# EAGLE library part SEEED-CONNECTOR--2016_GROVE-CONNECTOR-SMD-90D(4+2P-2.0) (library ATM90E26_Featherwing)
320110032
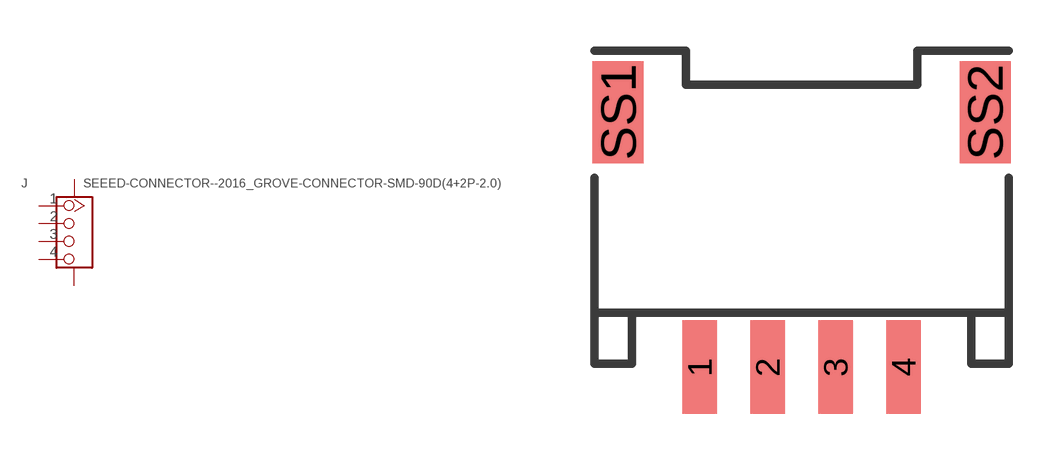
[diagram p1: symbol with the pads of SEEED-CONNECTOR--2016_HW4-SMD-2.0-90D; footprint SEEED-CONNECTOR--2016_HW4-SMD-2.0-90D]

Designator prefix J

## SEEED-CONNECTOR--2016_GROVE-CONNECTOR-SMD-90D(4+2P-2.0) (VALUE: 4P-SMD-2.0-90D)  [SEEED-CONNECTOR--2016_HW4-SMD-2.0-90D]
1  1
2  2
3  3
4  4
SS1  SS1
SS2  SS2

## Footprint SEEED-CONNECTOR--2016_HW4-SMD-2.0-90D (pad centres in mm)
smd 1.01 x 2.74: 1 -3,-0.1; 2 -1,-0.1; 3 1,-0.1; 4 3,-0.1
smd 1.5 x 3: SS1 -5.4,7.4; SS2 5.4,7.4